# EAGLE library part L293D (library GoatFinder)
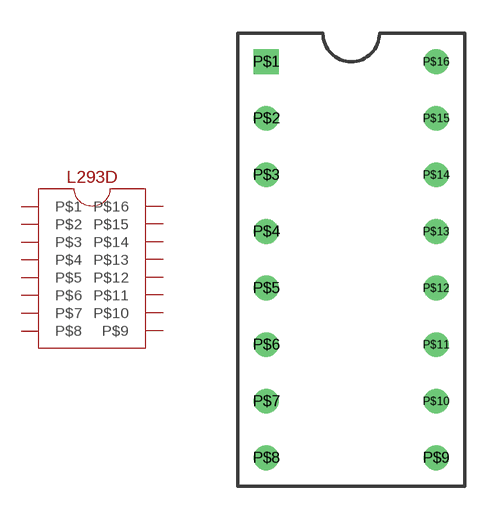
[diagram p1: symbol with the pads of PDIP-16; footprint PDIP-16]

Designator prefix -

## L293D  [PDIP-16]
P$1  P$1
P$2  P$2
P$3  P$3
P$4  P$4
P$5  P$5
P$6  P$6
P$7  P$7
P$8  P$8
P$9  P$9
P$10  P$10
P$11  P$11
P$12  P$12
P$13  P$13
P$14  P$14
P$15  P$15
P$16  P$16

## Footprint PDIP-16 (pad centres in mm)
drill 0.6 square: P$1 -3.81,0
drill 0.6: P$2 -3.81,-2.54; P$3 -3.81,-5.08; P$4 -3.81,-7.62; P$5 -3.81,-10.16; P$6 -3.81,-12.7; P$7 -3.81,-15.24; P$8 -3.81,-17.78; P$9 3.81,-17.78; P$10 3.81,-15.24; P$11 3.81,-12.7; P$12 3.81,-10.16; P$13 3.81,-7.62; P$14 3.81,-5.08; P$15 3.81,-2.54; P$16 3.81,0